# EAGLE library part COPERN2-DIP (library SPEAR-science-controller)
Copernicus II - DIP Copernicus II DIP GPS module breakout from SparkFun. Product Page <https://www.sparkfun.com/products/11858> Footrpint isn't entirely accurate. The pins should work though.
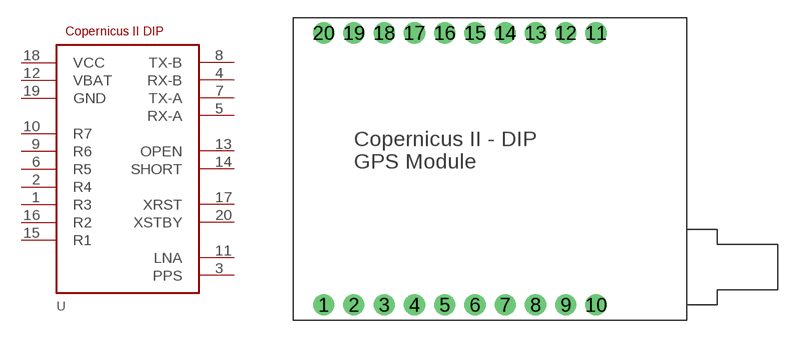
[diagram p0: symbol with the pads of COPERN2-DIP; footprint COPERN2-DIP]

Designator prefix -

## COPERN2-DIP  [COPERN2-DIP]
1  R3
2  R4
3  PPS
4  RX-B
5  RX-A
6  R5
7  TX-A
8  TX-B
9  R6
10  R7
11  LNA
12  VBAT
13  OPEN
14  SHORT
15  R1
16  R2
17  XRST
18  VCC
19  GND
20  XSTBY

## Footprint COPERN2-DIP (pad centres in mm)
Copernicus II - DIP Simple footprint for Adafruit Copernicus II DIP GPS Module. Silkscreen is NOT accurate
drill 1.016 pad 1.778: 1 0,0; 2 2.54,0; 3 5.08,0; 4 7.62,0; 5 10.16,0; 6 12.7,0; 7 15.24,0; 8 17.78,0; 9 20.32,0; 10 22.86,0; 11 22.86,22.86; 12 20.32,22.86; 13 17.78,22.86; 14 15.24,22.86; 15 12.7,22.86; 16 10.16,22.86; 17 7.62,22.86; 18 5.08,22.86; 19 2.54,22.86; 20 0,22.86